# Altium schematic symbol library modules_SOC.SchLib: 1 symbol
Pins are listed as number, name and electrical type; pins without a type are passive.

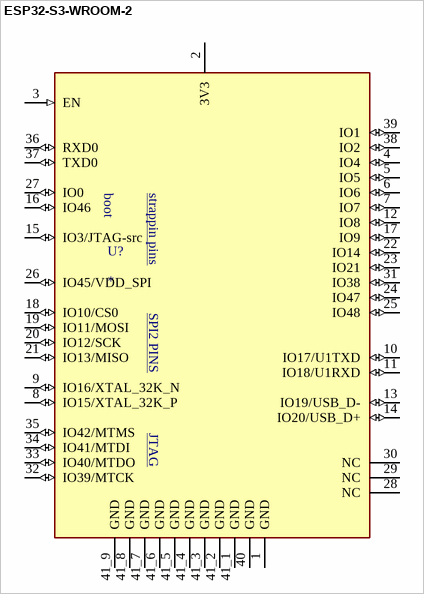
[diagram p0: symbol ESP32-S3-WROOM-2]

## ESP32-S3-WROOM-2
designator U?
Bluetooth, WiFi 802.11b/g/n, Bluetooth v5.0 Transceiver Module 2.4GHz PCB Trace Surface Mount; MF: Espressif Systems; MP: ESP32-S3-WROOM-2-N32R8V; Value: *; Purchase-URL: https://pricing.snapeda.com/search/part/ESP32-S3-WROOM-2-N32R8V/?ref=eda; Price: None; Package: Package; Check_prices: https://www.snapeda.com/parts/ESP32-S3-WROOM-2-N32R8V/Espressif+Systems/view-part/?ref=eda; SnapEDA_Link: https://www.snapeda.com/parts/ESP32-S3-WROOM-2-N32R8V/Espressif+Systems/view-part/?ref=snap; Availability: In Stock; ComponentLink1Description: http://wiki.fluidnc.com/en/hardware/ESP32-S3_Pin_Reference; ComponentLink1URL: PINOUT LINK
footprint XCVR_ESP32-S3-WROOM-2-N32R8V
pins: 1 GND (power), 2 3V3 (power), 3 EN (in), 4 IO4 (io), 5 IO5 (io), 6   IO6 (io), 7 IO7 (io), 8 IO15/XTAL_32K_P (io), 9 IO16/XTAL_32K_N (io), 10 IO17/U1TXD (io), 11 IO18/U1RXD (io), 12 IO8 (io), 13 IO19/USB_D- (io), 14 IO20/USB_D+ (io), 15 IO3/JTAG-src (io), 16 IO46 (io), 17 IO9 (io), 18 IO10/CS0 (io), 19 IO11/MOSI (io), 20 IO12/SCK (io), 21 IO13/MISO (io), 22 IO14 (io), 23 IO21 (io), 24 IO47 (io), 25 IO48 (io), 26 IO45/VDD_SPI (io), 27 IO0 (io), 28 NC (hiz), 29 NC (hiz), 30 NC (hiz), 31 IO38 (io), 32 IO39/MTCK (io), 33 IO40/MTDO (io), 34 IO41/MTDI (io), 35 IO42/MTMS (io), 36 RXD0 (io), 37 TXD0 (io), 38 IO2 (io), 39 IO1 (io), 40 GND (power), 41_1 GND (power), 41_2 GND (power), 41_3 GND (power), 41_4 GND (power), 41_5 GND (power), 41_6 GND (power), 41_7 GND (power), 41_8 GND (power), 41_9 GND (power)
text: boot; strappin pins; SPI2 PINS; JTAG